# Altium footprint library Capacitor Electrolytic Snap-In Radial.PcbLib: 97 footprints (part 6 of 7)
Each footprint in its own frame and in the unit in brackets; x right, y up, seen from the top. Pads: shape width x height; smd on the part's side, far side on the other; paste and mask are expansions set on the pad; w line width, h text height; cw(c..) or ccw(c..) is an arc to the next point about the centre after c.
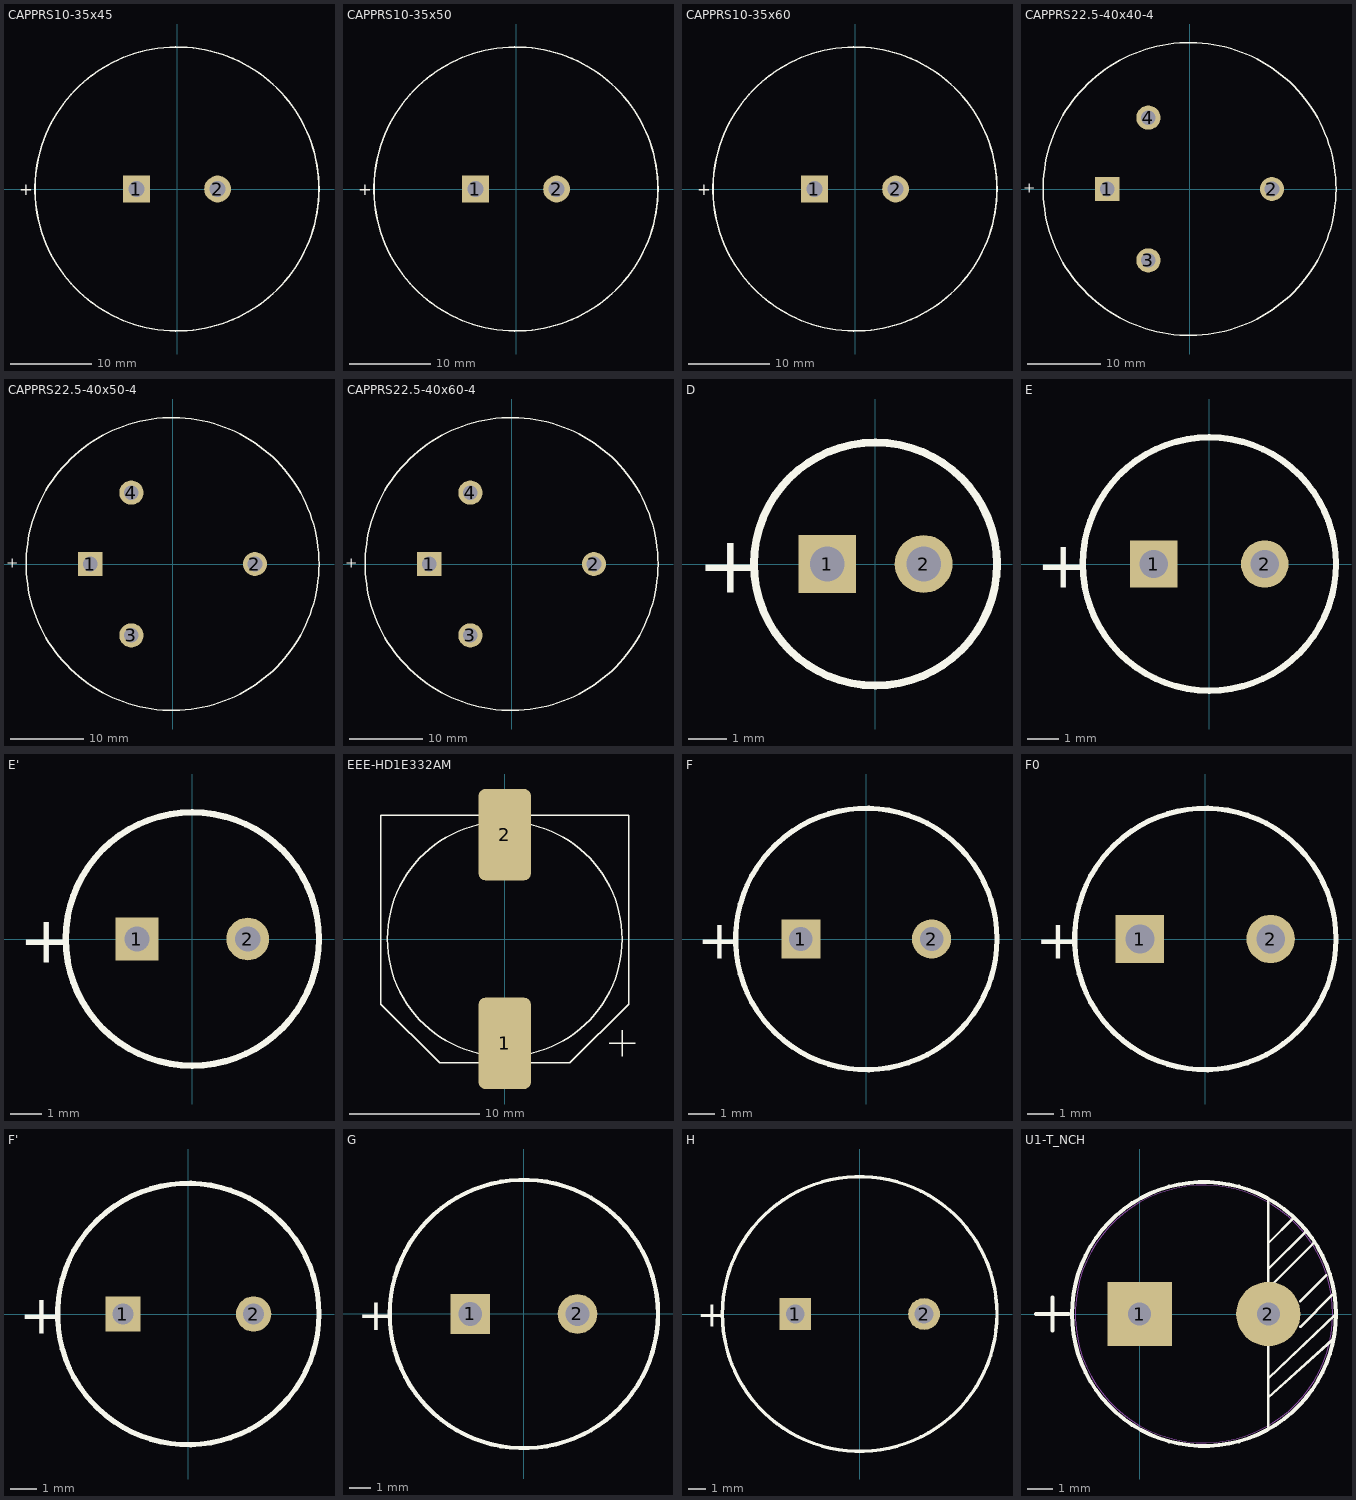
[diagram p5: the footprints below, top view; thin cyan lines are the x and y axes]

## CAPPRS10-35x45 [mm] "Capacitor, Electrolytic, Radial, Snap-In Pins; Body 35 x 45 mm (Dia.xH typ); Pin Spacing 10 mm (typ)"
height 47
pads (2):
  rect 3.3x3.3 hole 2: 1(-5,0)
  round 3.3 hole 2: 2(5,0)
Top Overlay:
  circle w0.2: c0,0 r17.5
  text "+" at -19.475,-0.75 h1.5

## CAPPRS10-35x50 [mm] "Capacitor, Electrolytic, Radial, Snap-In Pins; Body 35 x 50 mm (Dia.xH typ); Pin Spacing 10 mm (typ)"
height 52
pads (2):
  rect 3.3x3.3 hole 2: 1(-5,0)
  round 3.3 hole 2: 2(5,0)
Top Overlay:
  circle w0.2: c0,0 r17.5
  text "+" at -19.475,-0.75 h1.5

## CAPPRS10-35x60 [mm] "Capacitor, Electrolytic, Radial, Snap-In Pins; Body 35 x 60 mm (Dia.xH typ); Pin Spacing 10 mm (typ)"
height 62
pads (2):
  rect 3.3x3.3 hole 2: 1(-5,0)
  round 3.3 hole 2: 2(5,0)
Top Overlay:
  circle w0.2: c0,0 r17.5
  text "+" at -19.475,-0.75 h1.5

## CAPPRS22.5-40x40-4 [mm] "Capacitor, Electrolytic, Radial, Snap-In Pins; Body 40 x 40 mm (Dia.xH typ); Pin Spacing 22.5 mm (typ)"
height 42
pads (4):
  rect 3.3x3.3 hole 2: 1(-11.25,0)
  round 3.3 hole 2: 2(11.25,0) 3(-5.625,-9.743) 4(-5.625,9.743)
Top Overlay:
  circle w0.2: c0,0 r20
  text "+" at -20.975,0.75 h1.5

## CAPPRS22.5-40x50-4 [mm] "Capacitor, Electrolytic, Radial, Snap-In Pins; Body 40 x 50 mm (Dia.xH typ); Pin Spacing 22.5 mm (typ)"
height 52
pads (4):
  rect 3.3x3.3 hole 2: 1(-11.25,0)
  round 3.3 hole 2: 2(11.25,0) 3(-5.625,-9.743) 4(-5.625,9.743)
Top Overlay:
  circle w0.2: c0,0 r20
  text "+" at -20.975,0.75 h1.5

## CAPPRS22.5-40x60-4 [mm] "Capacitor, Electrolytic, Radial, Snap-In Pins; Body 40 x 60 mm (Dia.xH typ); Pin Spacing 22.5 mm (typ)"
height 62
pads (4):
  rect 3.3x3.3 hole 2: 1(-11.25,0)
  round 3.3 hole 2: 2(11.25,0) 3(-5.625,-9.743) 4(-5.625,9.743)
Top Overlay:
  circle w0.2: c0,0 r20
  text "+" at -20.975,0.75 h1.5

## D [mm] "Capacitor, Electrolytic, Radial; Body 6.3 x 9.8 mm (Dia.xH typ); Pin Spacing 2.5 mm (typ)"
height 10.8
pads (2):
  rect 1.5x1.5 hole 0.9: 1(-1.25,0)
  round 1.5 hole 0.9: 2(1.25,0)
Top Overlay:
  circle w0.2: c0,0 r3.15
  text "+" at -4.625,-0.75 h1.5

## E [mm] "Capacitor, Electrolytic, Radial; Body 8 x 10.5 mm (Dia.xH typ); Pin Spacing 3.5 mm (typ)"
height 11.5
pads (2):
  rect 1.5x1.5 hole 0.9: 1(-1.75,0)
  round 1.5 hole 0.9: 2(1.75,0)
Top Overlay:
  circle w0.2: c0,0 r4
  text "+" at -5.475,-0.75 h1.5

## E' [mm] "Capacitor, Electrolytic, Radial; Body 8 x 5 mm (Dia.xH typ); Pin Spacing 3.5 mm (typ)"
height 6
pads (2):
  rect 1.35x1.35 hole 0.8: 1(-1.75,0)
  round 1.35 hole 0.8: 2(1.75,0)
Top Overlay:
  circle w0.2: c0,0 r4
  text "+" at -5.475,-0.75 h1.5

## EEE-HD1E332AM [mm]
height 16
pads (2):
  rrect25% 4x7 smd: 1(0,-8) 2(0,8)
Top Overlay:
  circle w0.1: c0,0 r9
  lines w0.1: 8,-8 10,-8 ; 9,-9 9,-7 ; -9.5,-5 -9.5,9.5 9.5,9.5 9.5,-5 5,-9.5 -5,-9.5 -9.5,-5
3D body: height 16.5, standoff 0, extent -9,-8.997 9,8.997

## F [mm] "Capacitor, Electrolytic, Radial; Body 10 x 10.5 mm (Dia.xH typ); Pin Spacing 5 mm (typ)"
height 11.5
pads (2):
  rect 1.5x1.5 hole 0.9: 1(-2.5,0)
  round 1.5 hole 0.9: 2(2.5,0)
Top Overlay:
  circle w0.2: c0,0 r5
  text "+" at -6.475,-0.75 h1.5

## F0 [mm] "Capacitor, Electrolytic, Radial; Body 10 x 20 mm (Dia.xH typ); Pin Spacing 5 mm (typ)"
height 21
pads (2):
  rect 1.85x1.85 hole 1.1: 1(-2.5,0)
  round 1.85 hole 1.1: 2(2.5,0)
Top Overlay:
  circle w0.2: c0,0 r5
  text "+" at -6.475,-0.75 h1.5

## F' [mm] "Capacitor, Electrolytic, Radial; Body 10 x 5 mm (Dia.xH typ); Pin Spacing 5 mm (typ)"
height 6
pads (2):
  rect 1.35x1.35 hole 0.8: 1(-2.5,0)
  round 1.35 hole 0.8: 2(2.5,0)
Top Overlay:
  circle w0.2: c0,0 r5
  text "+" at -6.475,-0.75 h1.5

## G [mm] "Capacitor, Electrolytic, Radial; Body 12.5 x 22 mm (Dia.xH typ); Pin Spacing 5 mm (typ)"
height 23
pads (2):
  rect 1.85x1.85 hole 1.1: 1(-2.5,0)
  round 1.85 hole 1.1: 2(2.5,0)
Top Overlay:
  circle w0.2: c0,0 r6.25
  text "+" at -7.725,-0.75 h1.5

## H [mm] "Capacitor, Electrolytic, Radial; Body 16 x 25 mm (Dia.xH typ); Pin Spacing 7.5 mm (typ)"
height 26
pads (2):
  rect 1.85x1.85 hole 1.1: 1(-3.75,0)
  round 1.85 hole 1.1: 2(3.75,0)
Top Overlay:
  circle w0.2: c0,0 r8
  text "+" at -9.475,-0.75 h1.5

## U1-T_NCH [mm]
pads (2):
  rect 2.5x2.5 / inner rect 1.372x1.372 / far side rect 1.372x1.372 hole 0.9 mask+0: 1(0,0)
  round 2.5 / inner round 1.372 / far side round 1.372 hole 0.9 mask+0: 2(5.004,0)
Top Overlay:
  circle w0.152: c2.502,0 r5.131
  lines w0.1: 5,-4.5 5,4.5 ; 5,-3.25 7.5,-1 ; 5,-2.5 7.633,0 ; 5,1 6.75,2.75 ; 5,1.75 6.5,3.25 ; 5,2.75 6,3.75 ; 6.25,-0.5 7.5,0.75 ; 6.25,0.5 7.25,1.5
  lines w0.152: -4.026,0 -2.756,0 ; -3.391,-0.635 -3.391,0.635
Mechanical 13:
  circle w0: c2.502,0 r5.004
  lines w0.025: -4.026,0 -2.756,0 ; -3.391,-0.635 -3.391,0.635
3D body: height 20, standoff 0, extent -2.5,-5 7.5,5
3D body: height 0.25, standoff 0, extent 0,0 0.254,0.254